# EAGLE library part LM709CN-8_NOPB (library LM709CN-8_NOPB)
Operational Amplifiers - Op Amps Source: Datasheet <https://pdf1.alldatasheet.com/datasheet-pdf/view/9019/NSC/LM709CN-8.html>
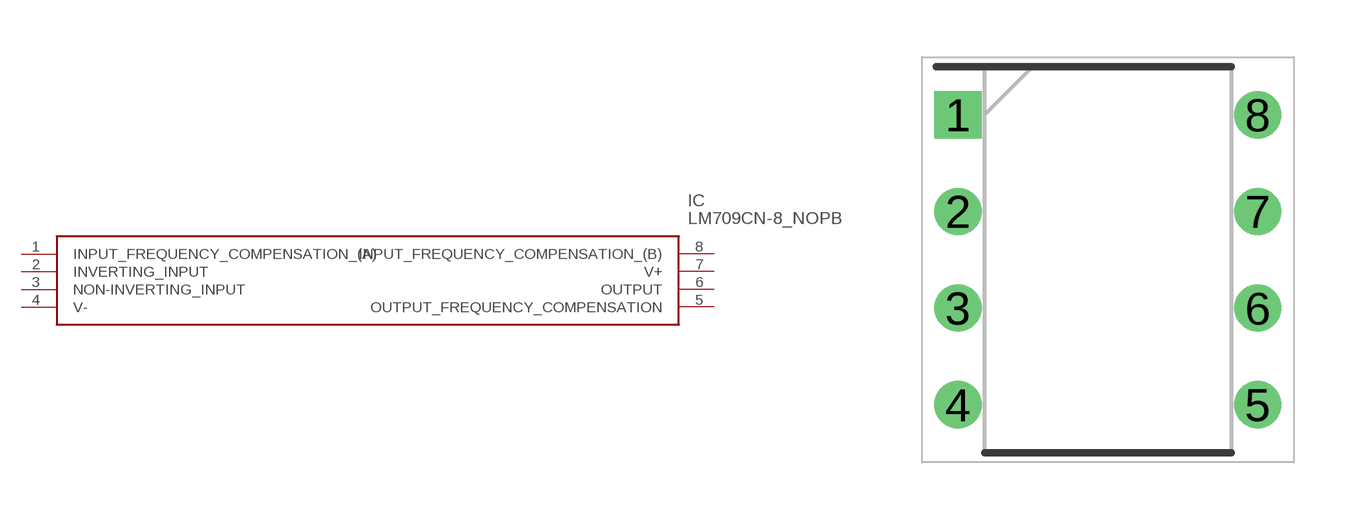
[diagram p0: symbol with the pads of DIP787W53P254L982H508Q8N; footprint DIP787W53P254L982H508Q8N]

Designator prefix IC

## LM709CN-8_NOPB (Description: Operational Amplifiers - Op Amps; Height: 5.08mm; Manufacturer_Name: Texas Instruments; Manufacturer_Part_Number: LM709CN-8/NOPB; Mouser_Part_Number: N/A; Mouser_Price-Stock: https://www.mouser.com/Search/Refine.aspx?Keyword=N%2FA)  [DIP787W53P254L982H508Q8N]
1  INPUT_FREQUENCY_COMPENSATION_(A)
2  INVERTING_INPUT
3  NON-INVERTING_INPUT
4  V-
5  OUTPUT_FREQUENCY_COMPENSATION
6  OUTPUT
7  V+
8  INPUT_FREQUENCY_COMPENSATION_(B)

## Footprint DIP787W53P254L982H508Q8N (pad centres in mm)
N08E
drill 0.733 pad 1.133 square: 1 -3.937,3.81
drill 0.733 pad 1.133: 2 -3.937,1.27; 3 -3.937,-1.27; 4 -3.937,-3.81; 5 3.937,-3.81; 6 3.937,-1.27; 7 3.937,1.27; 8 3.937,3.81